# EAGLE library part OPAMP_TS1874IPT (library GTOR - Active Components)
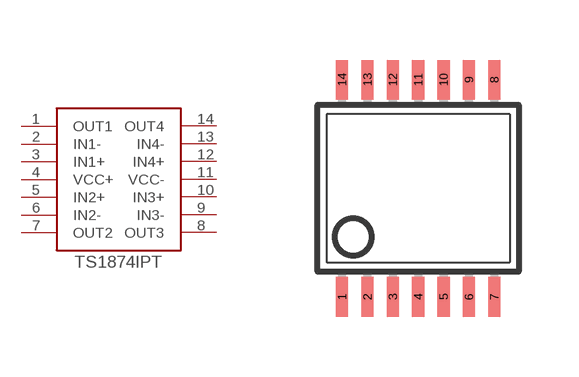
[diagram p13: symbol with the pads of TSSOP14; footprint TSSOP14]

Designator prefix -

## OPAMP_TS1874IPT  [TSSOP14]
1  OUT1
2  IN1-
3  IN1+
4  VCC+
5  IN2+
6  IN2-
7  OUT2
8  OUT3
9  IN3-
10  IN3+
11  VCC-
12  IN4+
13  IN4-
14  OUT4

## Footprint TSSOP14 (pad centres in mm)
Thin Shrink Small Outline Plastic 14
smd 0.305 x 0.991: 1 -1.905,-2.718; 2 -1.27,-2.718; 3 -0.635,-2.718; 4 0,-2.718; 5 0.635,-2.718; 6 1.27,-2.718; 7 1.905,-2.718; 8 1.905,2.718; 9 1.27,2.718; 10 0.635,2.718; 11 0,2.718; 12 -0.635,2.718; 13 -1.27,2.718; 14 -1.905,2.718